# Altium schematic symbol library TPS56x200.SchLib: 1 symbol
Pins are listed as number, name and electrical type; pins without a type are passive.

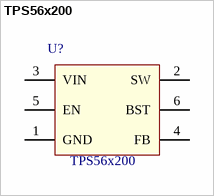
[diagram p0: symbol TPS56x200]

## TPS56x200
designator U?
TPS562200, TPS563200; value: TPS56x200
pins: 1 GND, 2 SW, 3 VIN, 4 FB, 5 EN, 6 BST